# EAGLE library part RTC7242 (library epson-rtc)
Real Time Clock RTC with integrated crystal and 4 bit parallel I/O.
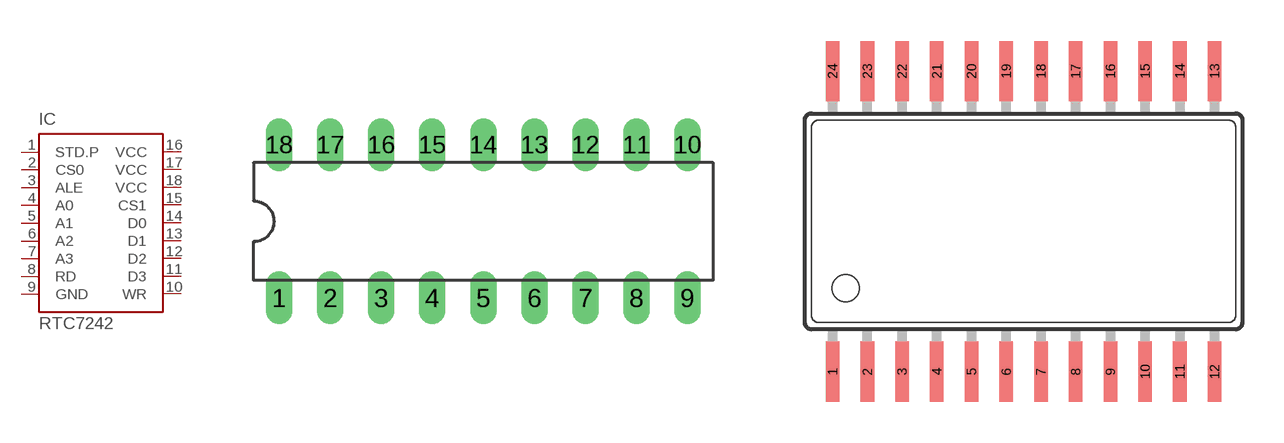
[diagram p0: symbol with the pads of DIL18; footprints DIL18, SOP-24]

Designator prefix IC

## RTC72421  [DIL18]
1  STD.P  in
2  CS0  in
3  ALE  in
4  A0  in
5  A1  in
6  A2  in
7  A3  in
8  RD  in
9  GND  pwr
10  WR  in
11  D3
12  D2
13  D1
14  D0
15  CS1  in
16  VCC  pwr
17  VCC  pwr
18  VCC  pwr

## RTC72423  [SOP-24]
1  STD.P  in
2  CS0  in
4  ALE  in
5  A0  in
7  A1  in
9  A2  in
10  A3  in
11  RD  in
12  GND  pwr
13  WR  in
14  D3
15  D2
16  D1
19  D0
20  CS1  in
22  VCC  pwr
23  VCC  pwr
24  VCC  pwr

## Footprint DIL18 (pad centres in mm)
Dual In Line Package
drill 0.813 long: 1 -10.16,-3.81; 2 -7.62,-3.81; 3 -5.08,-3.81; 4 -2.54,-3.81; 5 0,-3.81; 6 2.54,-3.81; 7 5.08,-3.81; 8 7.62,-3.81; 9 10.16,-3.81; 10 10.16,3.81; 11 7.62,3.81; 12 5.08,3.81; 13 2.54,3.81; 14 0,3.81; 15 -2.54,3.81; 16 -5.08,3.81; 17 -7.62,3.81; 18 -10.16,3.81

## Footprint SOP-24 (pad centres in mm)
Small Outline Package
smd 0.5 x 2.2: 1 -6.985,-5.5; 2 -5.715,-5.5; 3 -4.445,-5.5; 4 -3.175,-5.5; 5 -1.905,-5.5; 6 -0.635,-5.5; 7 0.635,-5.5; 8 1.905,-5.5; 9 3.175,-5.5; 10 4.445,-5.5; 11 5.715,-5.5; 12 6.985,-5.5; 13 6.985,5.5; 14 5.715,5.5; 15 4.445,5.5; 16 3.175,5.5; 17 1.905,5.5; 18 0.635,5.5; 19 -0.635,5.5; 20 -1.905,5.5; 21 -3.175,5.5; 22 -4.445,5.5; 23 -5.715,5.5; 24 -6.985,5.5